# EAGLE library part SAME70-XPLD (library Oxford Uni Racing Custom Blueprints)
SAME70-XPLD development board blueprint
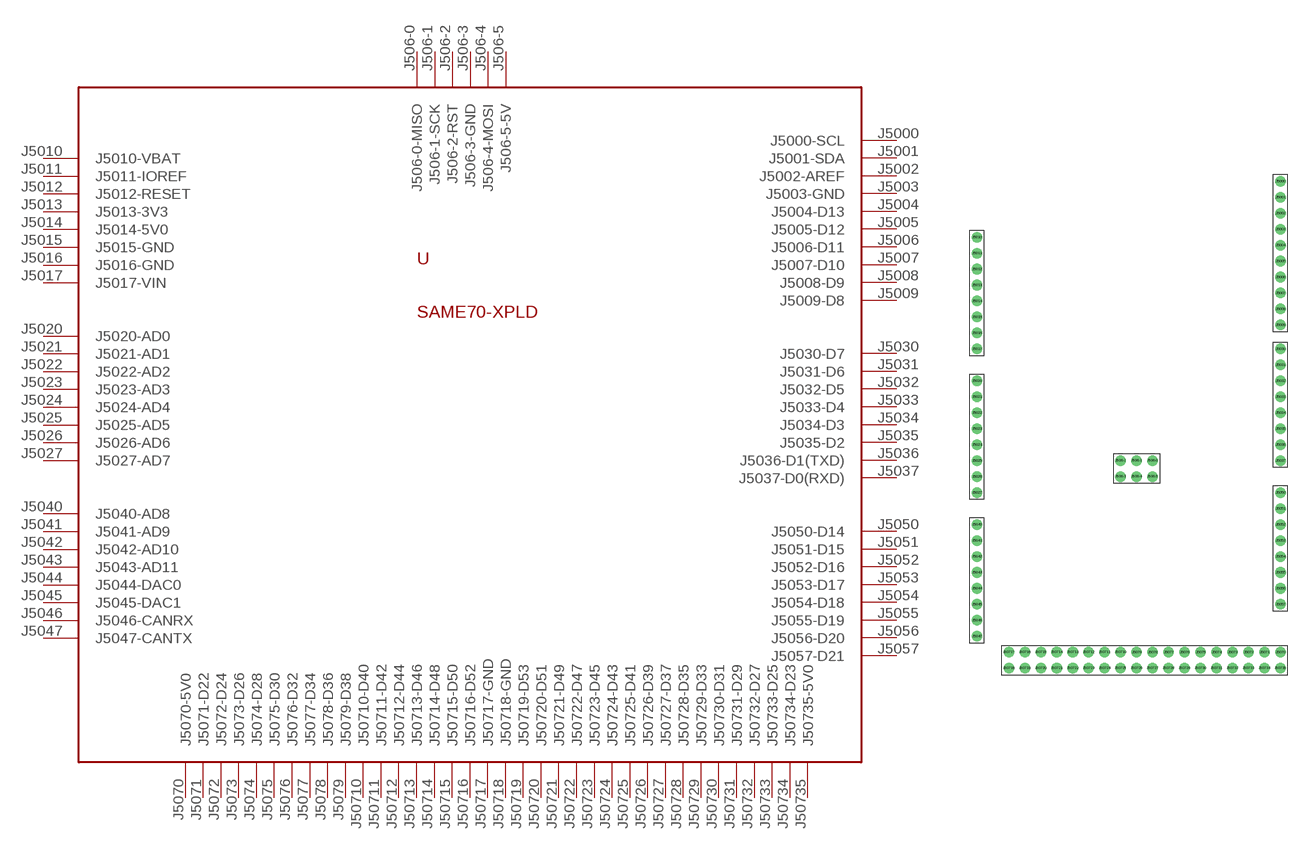
[diagram p0: symbol with the pads of SAME70-XPLD; footprint SAME70-XPLD]

Designator prefix -

## SAME70-XPLD  [SAME70-XPLD]
J506-0  J506-0-MISO
J506-1  J506-1-SCK
J506-2  J506-2-RST
J506-3  J506-3-GND
J506-4  J506-4-MOSI
J506-5  J506-5-5V
J5000  J5000-SCL
J5001  J5001-SDA
J5002  J5002-AREF
J5003  J5003-GND
J5004  J5004-D13
J5005  J5005-D12
J5006  J5006-D11
J5007  J5007-D10
J5008  J5008-D9
J5009  J5009-D8
J5010  J5010-VBAT
J5011  J5011-IOREF
J5012  J5012-RESET
J5013  J5013-3V3
J5014  J5014-5V0
J5015  J5015-GND
J5016  J5016-GND
J5017  J5017-VIN
J5020  J5020-AD0
J5021  J5021-AD1
J5022  J5022-AD2
J5023  J5023-AD3
J5024  J5024-AD4
J5025  J5025-AD5
J5026  J5026-AD6
J5027  J5027-AD7
J5030  J5030-D7
J5031  J5031-D6
J5032  J5032-D5
J5033  J5033-D4
J5034  J5034-D3
J5035  J5035-D2
J5036  J5036-D1(TXD)
J5037  J5037-D0(RXD)
J5040  J5040-AD8
J5041  J5041-AD9
J5042  J5042-AD10
J5043  J5043-AD11
J5044  J5044-DAC0
J5045  J5045-DAC1
J5046  J5046-CANRX
J5047  J5047-CANTX
J5050  J5050-D14
J5051  J5051-D15
J5052  J5052-D16
J5053  J5053-D17
J5054  J5054-D18
J5055  J5055-D19
J5056  J5056-D20
J5057  J5057-D21
J5070  J5070-5V0
J5071  J5071-D22
J5072  J5072-D24
J5073  J5073-D26
J5074  J5074-D28
J5075  J5075-D30
J5076  J5076-D32
J5077  J5077-D34
J5078  J5078-D36
J5079  J5079-D38
J50710  J50710-D40
J50711  J50711-D42
J50712  J50712-D44
J50713  J50713-D46
J50714  J50714-D48
J50715  J50715-D50
J50716  J50716-D52
J50717  J50717-GND
J50718  J50718-GND
J50719  J50719-D53
J50720  J50720-D51
J50721  J50721-D49
J50722  J50722-D47
J50723  J50723-D45
J50724  J50724-D43
J50725  J50725-D41
J50726  J50726-D39
J50727  J50727-D37
J50728  J50728-D35
J50729  J50729-D33
J50730  J50730-D31
J50731  J50731-D29
J50732  J50732-D27
J50733  J50733-D25
J50734  J50734-D23
J50735  J50735-5V0

## Footprint SAME70-XPLD (pad centres in mm)
drill 0.8 pad 1.676: J506-0 27.94,27.94; J506-1 25.4,27.94; J506-2 22.86,27.94; J506-3 22.86,25.4; J506-4 25.4,25.4; J506-5 27.94,25.4; J5000 48.26,72.39; J5001 48.26,69.85; J5002 48.26,67.31; J5003 48.26,64.77; J5004 48.26,62.23; J5005 48.26,59.69; J5006 48.26,57.15; J5007 48.26,54.61; J5008 48.26,52.07; J5009 48.26,49.53; J5010 0,63.5; J5011 0,60.96; J5012 0,58.42; J5013 0,55.88; J5014 0,53.34; J5015 0,50.8; J5016 0,48.26; J5017 0,45.72; J5020 0,40.64; J5021 0,38.1; J5022 0,35.56; J5023 0,33.02; J5024 0,30.48; J5025 0,27.94; J5026 0,25.4; J5027 0,22.86; J5030 48.26,45.72; J5031 48.26,43.18; J5032 48.26,40.64; J5033 48.26,38.1; J5034 48.26,35.56; J5035 48.26,33.02; J5036 48.26,30.48; J5037 48.26,27.94; J5040 0,17.78; J5041 0,15.24; J5042 0,12.7; J5043 0,10.16; J5044 0,7.62; J5045 0,5.08; J5046 0,2.54; J5047 0,0; J5050 48.26,22.86; J5051 48.26,20.32; J5052 48.26,17.78; J5053 48.26,15.24; J5054 48.26,12.7; J5055 48.26,10.16; J5056 48.26,7.62; J5057 48.26,5.08; J5070 48.26,-2.54; J5071 45.72,-2.54; J5072 43.18,-2.54; J5073 40.64,-2.54; J5074 38.1,-2.54; J5075 35.56,-2.54; J5076 33.02,-2.54; J5077 30.48,-2.54; J5078 27.94,-2.54; J5079 25.4,-2.54; J50710 22.86,-2.54; J50711 20.32,-2.54; J50712 17.78,-2.54; J50713 15.24,-2.54; J50714 12.7,-2.54; J50715 10.16,-2.54; J50716 7.62,-2.54; J50717 5.08,-2.54; J50718 5.08,-5.08; J50719 7.62,-5.08; J50720 10.16,-5.08; J50721 12.7,-5.08; J50722 15.24,-5.08; J50723 17.78,-5.08; J50724 20.32,-5.08; J50725 22.86,-5.08; J50726 25.4,-5.08; J50727 27.94,-5.08; J50728 30.48,-5.08; J50729 33.02,-5.08; J50730 35.56,-5.08; J50731 38.1,-5.08; J50732 40.64,-5.08; J50733 43.18,-5.08; J50734 45.72,-5.08; J50735 48.26,-5.08